# Altium schematic symbol library TPSM33625RDNR.Schlib: 1 symbol
Pins are listed as number, name and electrical type; pins without a type are passive.

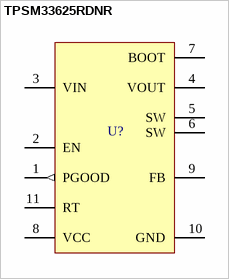
[diagram p0: symbol TPSM33625RDNR]

## TPSM33625RDNR
designator U?
Non-Isolated PoL Module DC DC Converter 1 Output, 1V ~ 15V, 2.5A, 3V - 36V
pins: 1 PGOOD (out), 2 EN, 3 VIN (power), 4 VOUT (power), 5 SW, 6 SW, 7 BOOT, 8 VCC, 9 FB, 10 GND (power), 11 RT